# Altium footprint library PcbLib2.PcbLib: 1 footprints
Each footprint in its own frame and in the unit in brackets; x right, y up, seen from the top. Pads: shape width x height; smd on the part's side, far side on the other; paste and mask are expansions set on the pad; w line width, h text height; cw(c..) or ccw(c..) is an arc to the next point about the centre after c.
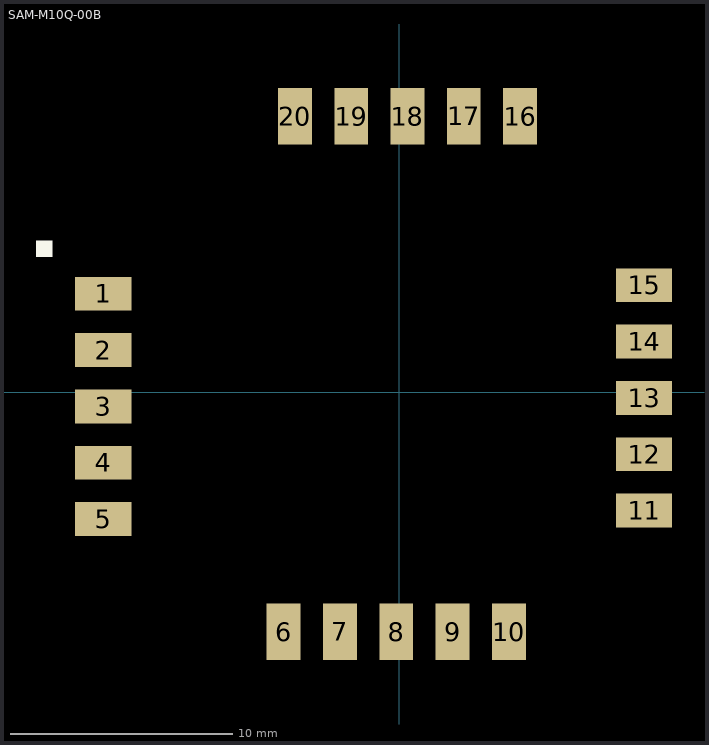
[diagram p0: the footprint, top view; thin cyan lines are the x and y axes]

## SAM-M10Q-00B [mil]
pads (20):
  rect 100x60 smd: 1(-525,175) 2(-525,75) 3(-525,-25) 4(-525,-125) 5(-525,-225) 11(435,-210) 12(435,-110) 13(435,-10) 14(435,90) 15(435,190)
  rect 60x100 smd: 6(-205,-425) 7(-105,-425) 8(-5,-425) 9(95,-425) 10(195,-425) 16(215,490) 17(115,490) 18(15,490) 19(-85,490) 20(-185,490)
Top Layer:
  lines w10: -85,480 -90,485 -85,490 ; -1.42,459.77 -1.42,468.58 15,485
  lines w20: 87.15,-397.15 100,-410 ; 115,484.42 115,490
Top Overlay:
  rectangle: -645,240 -615,270
Bottom Overlay: